# EAGLE library part CY8C201A0 (library touch_sensor)
Cypress touch sensor
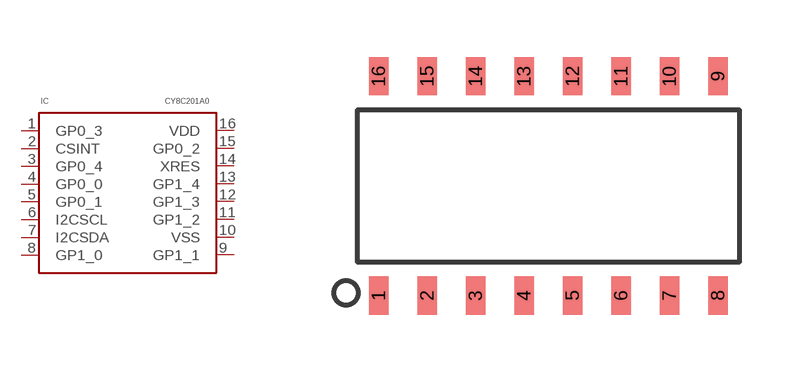
[diagram p0: symbol with the pads of SOIC-16; footprint SOIC-16]

Designator prefix IC

## CY8C201A0-SX2I  [SOIC-16]
1  GP0_3
2  CSINT
3  GP0_4
4  GP0_0
5  GP0_1
6  I2CSCL
7  I2CSDA
8  GP1_0
9  GP1_1
10  VSS
11  GP1_2
12  GP1_3
13  GP1_4
14  XRES
15  GP0_2
16  VDD

## Footprint SOIC-16 (pad centres in mm)
smd 0.5 x 1: 1 -4.445,-2.875; 2 -3.175,-2.875; 3 -1.905,-2.875; 4 -0.635,-2.875; 5 0.635,-2.875; 6 1.905,-2.875; 7 3.175,-2.875; 8 4.445,-2.875; 9 4.445,2.875; 10 3.175,2.875; 11 1.905,2.875; 12 0.635,2.875; 13 -0.635,2.875; 14 -1.905,2.875; 15 -3.175,2.875; 16 -4.445,2.875